# Altium schematic symbol library CD4017 counter.SchLib: 1 symbol
Pins are listed as number, name and electrical type; pins without a type are passive.

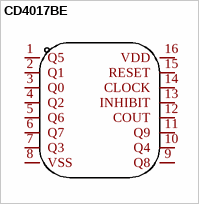
[diagram p0: symbol CD4017BE]

## CD4017BE
designator U?  (value not drawn)
Manufacturer: HGSEMI(华冠); Symbol: CD4017BE_C507168; Add into BOM: yes; Device: CD4017BE; LCSC Part Name: 具有 10 个解码输出的 CMOS 十进制计数器; Supplier Part: C507168; Manufacturer Part: CD4017BE; Supplier Footprint: DIP-16; JLCPCB Part Class: Extended Part; Datasheet: https://atta.szlcsc.com/upload/public/pdf/source/20200408/C507168_1EB3A770EB6186DF54EC929FA48E233F.pdf; Supplier: LCSC; Convert to PCB: yes
footprint DIP-16_L19.2-W6.6-P2.54-LS7.6-BL
footprint PCBComponent_1
pins: 1 Q5, 2 Q1, 3 Q0, 4 Q2, 5 Q6, 6 Q7, 7 Q3, 8 VSS, 9 Q8, 10 Q4, 11 Q9, 12 COUT, 13 INHIBIT, 14 CLOCK, 15 RESET, 16 VDD